# Altium schematic symbol library 3-641209-4.SchLib: 1 symbol
Pins are listed as number, name and electrical type; pins without a type are passive.

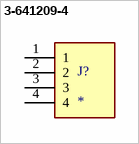
[diagram p0: symbol 3-641209-4]

## 3-641209-4
designator J?
MF: {'manufacturer': u'TE Connectivity'}; MP: 3-641209-4; Value: *; Availability: Unavailable; Price: None; Package: None
footprint TE_3-641209-4
pins: 1, 2, 3, 4